# Altium schematic symbol library Soft_latch.SchLib: 2 symbols
Pins are listed as number, name and electrical type; pins without a type are passive.

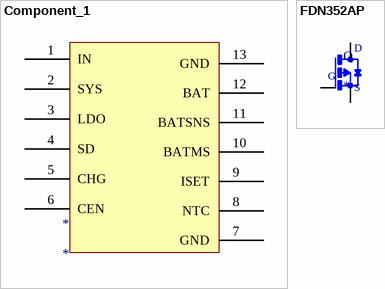
[diagram p0: symbols Component_1 to FDN352AP]

## Component_1
designator *
footprint PCBComponent_1
pins: 1 IN, 2 SYS, 3 LDO, 4 SD, 5 CHG, 6 CEN, 7 GND, 8 NTC, 9 ISET, 10 BATMS, 11 BATSNS, 12 BAT, 13 GND

## FDN352AP
designator Q
P-Channel 30V 1.3A _Ta_ 500mW _Ta_ Surface Mount SuperSOT-3; MF: ON Semiconductor; MP: FDN352AP; SnapEDA_Link: https://www.snapeda.com/parts/FDN352AP/ON%20Semiconductor/view-part/1400764/?ref=snap; Value: *; Price: None; Availability: Unavailable; Package: SC-59 ON Semiconductor
footprint SSOT-3
pins: 1 G, 2 S, 3 D